# EAGLE library part ESP-12E (library kanflo)
ESP12e module This is a copy of AdaFruit's device with correct pin order for GPIO4 and GPIO5.
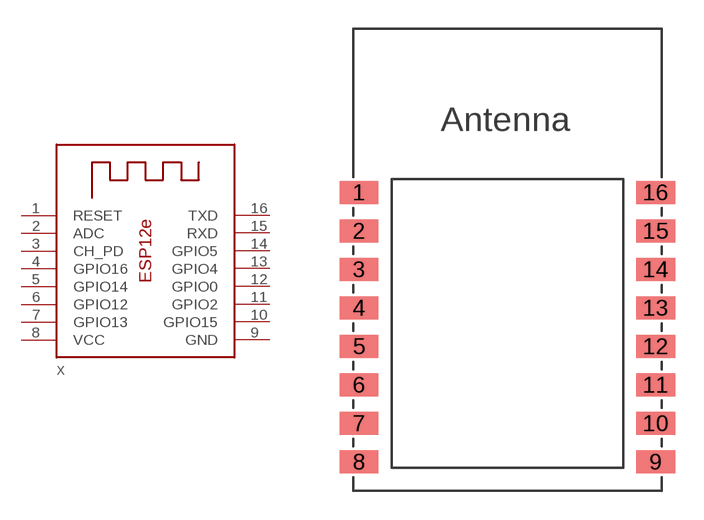
[diagram p0: symbol with the pads of ESP-12E; footprint ESP-12E]

Designator prefix X

## ESP-12E  [ESP-12E]
1  RESET  in
2  ADC  pas
3  CH_PD  in
4  GPIO16
5  GPIO14
6  GPIO12
7  GPIO13
8  VCC  pwr
9  GND  pwr
10  GPIO15
11  GPIO2
12  GPIO0
13  GPIO4
14  GPIO5
15  RXD  in
16  TXD  out

## Footprint ESP-12E (pad centres in mm)
smd 2 x 1.2: 1 -7.7,4.5; 2 -7.7,2.5; 3 -7.7,0.5; 4 -7.7,-1.5; 5 -7.7,-3.5; 6 -7.7,-5.5; 7 -7.7,-7.5; 8 -7.7,-9.5; 9 7.7,-9.5; 10 7.7,-7.5; 11 7.7,-5.5; 12 7.7,-3.5; 13 7.7,-1.5; 14 7.7,0.5; 15 7.7,2.5; 16 7.7,4.5